# EAGLE library part 61300611021 (library Board_to_Board_Connectors_rev15d)
WR-PHD 2.54mm Angled Pin Header, 6 Pins =>Con_BTB_PHD_2.54_1_THT_61300611021 <http://katalog.we-online.de/media/images/eican/Con_BTB_PHD_2.54_1_THT_61303211021_pf2.jpg> Details see: http://katalog.we-online.de/en/em/613_0xx_110_21 Created 2014-05-29, Karrer Zheng 2014 (C) Würth Elektronik
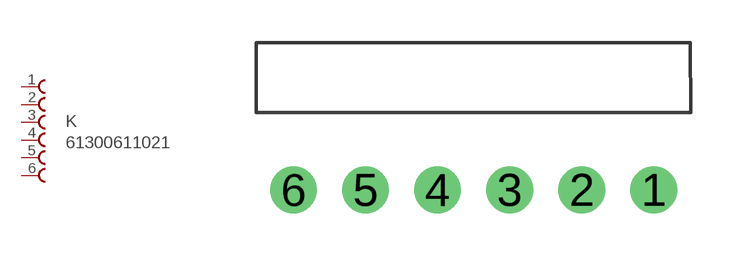
[diagram p39: symbol with the pads of 61300611021; footprint 61300611021]

Designator prefix K

## 61300611021  [61300611021]
1  1  pas
2  2  pas
3  3  pas
4  4  pas
5  5  pas
6  6  pas

## Footprint 61300611021 (pad centres in mm)
WR-PHD 2.54mm Angled Pin Header, 6 Pins
drill 1.1: 1 6.35,0; 2 3.81,0; 3 1.27,0; 4 -1.27,0; 5 -3.81,0; 6 -6.35,0